# EAGLE library part SI1427EDH-T1-GE3 (library Vishay)
P-Channel 20 V (D-S) MOSFET
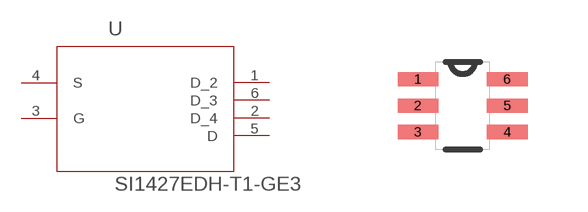
[diagram p74: symbol with the pads of SOT65P210X110-6N; footprint SOT65P210X110-6N]

Designator prefix U

## SI1427EDH-T1-GE3 (MPN: SI1427EDH-T1-GE3; OC_FARNELL: 2056679; OC_NEWARK: 64T4053; PACKAGE: SOT363-6; SUPPLIER: VISHAY SILICONIX)  [SOT65P210X110-6N]
1  D_2  pas
2  D_4  pas
3  G  pas
4  S  pas
5  D  pas
6  D_3  pas

## Footprint SOT65P210X110-6N (pad centres in mm)
smd 1.016 x 0.356: 1 -1.118,0.66; 2 -1.118,0; 3 -1.118,-0.66; 4 1.118,-0.66; 5 1.118,0; 6 1.118,0.66